# EAGLE library part IMX31_JTAG (library DUMMY)
CONNECTOR
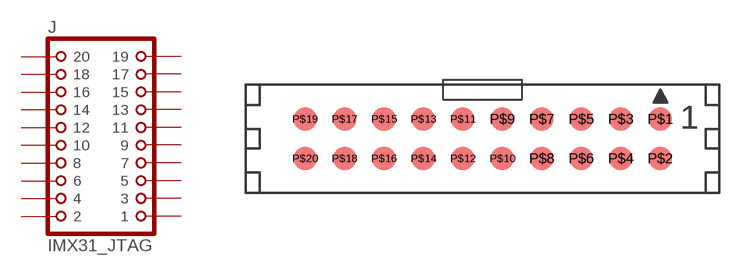
[diagram p3: symbol with the pads of IMX31_JTAG; footprint IMX31_JTAG]

Designator prefix J

## IMX31_JTAG  [IMX31_JTAG]
P$1  1  pas
P$2  2  pas
P$3  3  pas
P$4  4  pas
P$5  5  pas
P$6  6  pas
P$7  7  pas
P$8  8  pas
P$9  9  pas
P$10  10  pas
P$11  11  pas
P$12  12  pas
P$13  13  pas
P$14  14  pas
P$15  15  pas
P$16  16  pas
P$17  17  pas
P$18  18  pas
P$19  19  pas
P$20  20  pas

## Footprint IMX31_JTAG (pad centres in mm)
CONNECTOR
smd 1.5 x 1.5: P$1 11.43,1.27; P$2 11.43,-1.27; P$3 8.89,1.27; P$4 8.89,-1.27; P$5 6.35,1.27; P$6 6.35,-1.27; P$7 3.81,1.27; P$8 3.81,-1.27; P$9 1.27,1.27; P$10 1.27,-1.27; P$11 -1.27,1.27; P$12 -1.27,-1.27; P$13 -3.81,1.27; P$14 -3.81,-1.27; P$15 -6.35,1.27; P$16 -6.35,-1.27; P$17 -8.89,1.27; P$18 -8.89,-1.27; P$19 -11.43,1.27; P$20 -11.43,-1.27